# Altium footprint library AD9834.PcbLib: 3 footprints
Each footprint in its own frame and in the unit in brackets; x right, y up, seen from the top. Pads: shape width x height; smd on the part's side, far side on the other; paste and mask are expansions set on the pad; w line width, h text height; cw(c..) or ccw(c..) is an arc to the next point about the centre after c.
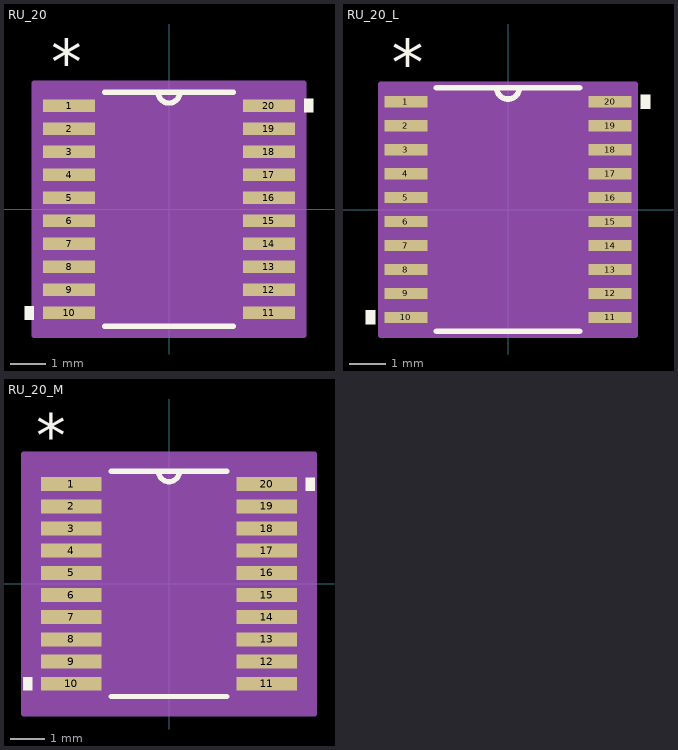
[diagram p0: the footprints below, top view; thin cyan lines are the x and y axes]

## RU_20 [mil]
pads (20):
  rect 58x14 smd mask+4: 1(-111,115.16) 2(-111,89.57) 3(-111,63.98) 4(-111,38.39) 5(-111,12.8) 6(-111,-12.8) 7(-111,-38.39) 8(-111,-63.98) 9(-111,-89.57) 10(-111,-115.16) 11(111,-115.16) 12(111,-89.57) 13(111,-63.98) 14(111,-38.39) 15(111,-12.8) 16(111,12.8) 17(111,38.39) 18(111,63.98) 19(111,89.57) 20(111,115.16)
Top Overlay:
  region: 150,122.66 160,122.66 160,107.66 150,107.66
  region: -150,-107.66 -160,-107.66 -160,-122.66 -150,-122.66
  lines w6: -71.51,-130 71.51,-130 ; -71.51,130 71.51,130 ; -12,130 ccw(c0,130) 12,130
  text "*" at -131,139.16 h50
Mechanical 13:
  lines w0: -12,130 ccw(c0,130) 12,130
  text "*" at -131,139.16 h50
Mechanical 15:
  region: 150,-140 -150,-140 -150,140 150,140
  lines w6: -150,-140 150,-140 150,140 -150,140 -150,-140
3D body: height 47.1, standoff 0, extent -126,-130 126,130

## RU_20_L [mil]
pads (20):
  rect 46x12 smd: 1(-109,115.16) 2(-109,89.57) 3(-109,63.98) 4(-109,38.39) 5(-109,12.8) 6(-109,-12.8) 7(-109,-38.39) 8(-109,-63.98) 9(-109,-89.57) 10(-109,-115.16) 11(109,-115.16) 12(109,-89.57) 13(109,-63.98) 14(109,-38.39) 15(109,-12.8) 16(109,12.8) 17(109,38.39) 18(109,63.98) 19(109,89.57) 20(109,115.16)
Top Overlay:
  region: -142,-107.66 -152,-107.66 -152,-122.66 -142,-122.66
  region: 142,122.66 152,122.66 152,107.66 142,107.66
  lines w6: -76.33,-130 76.33,-130 ; -76.33,130 76.33,130 ; -12,130 ccw(c0,130) 12,130
  text "*" at -124,132.16 h50
Mechanical 13:
  lines w0: -12,130 ccw(c0,130) 12,130
  text "*" at -124,132.16 h50
Mechanical 15:
  region: 136,-134 -136,-134 -136,134 136,134
  lines w6: -136,-134 -136,134 136,134 136,-134 -136,-134
3D body: height 47.1, standoff 0, extent -126,-130 126,130

## RU_20_M [mil]
pads (20):
  rect 70x16 smd mask+4: 1(-113,115.16) 2(-113,89.57) 3(-113,63.98) 4(-113,38.39) 5(-113,12.8) 6(-113,-12.8) 7(-113,-38.39) 8(-113,-63.98) 9(-113,-89.57) 10(-113,-115.16) 11(113,-115.16) 12(113,-89.57) 13(113,-63.98) 14(113,-38.39) 15(113,-12.8) 16(113,12.8) 17(113,38.39) 18(113,63.98) 19(113,89.57) 20(113,115.16)
Top Overlay:
  region: -158,-107.66 -168,-107.66 -168,-122.66 -158,-122.66
  region: 158,122.66 168,122.66 168,107.66 158,107.66
  lines w6: -66.83,-130 66.83,-130 ; -66.83,130 66.83,130 ; -12,130 ccw(c0,130) 12,130
  text "*" at -153,146.16 h50
Mechanical 13:
  lines w0: -12,130 ccw(c0,130) 12,130
  text "*" at -153,146.16 h50
Mechanical 15:
  region: 168,-150 -168,-150 -168,150 168,150
  lines w6: -168,-150 -168,150 168,150 168,-150 -168,-150
3D body: height 47.1, standoff 0, extent -126,-130 126,130